# Altium schematic symbol library RF_Module.SchLib: 63 symbols
Pins are listed as number, name and electrical type; pins without a type are passive.

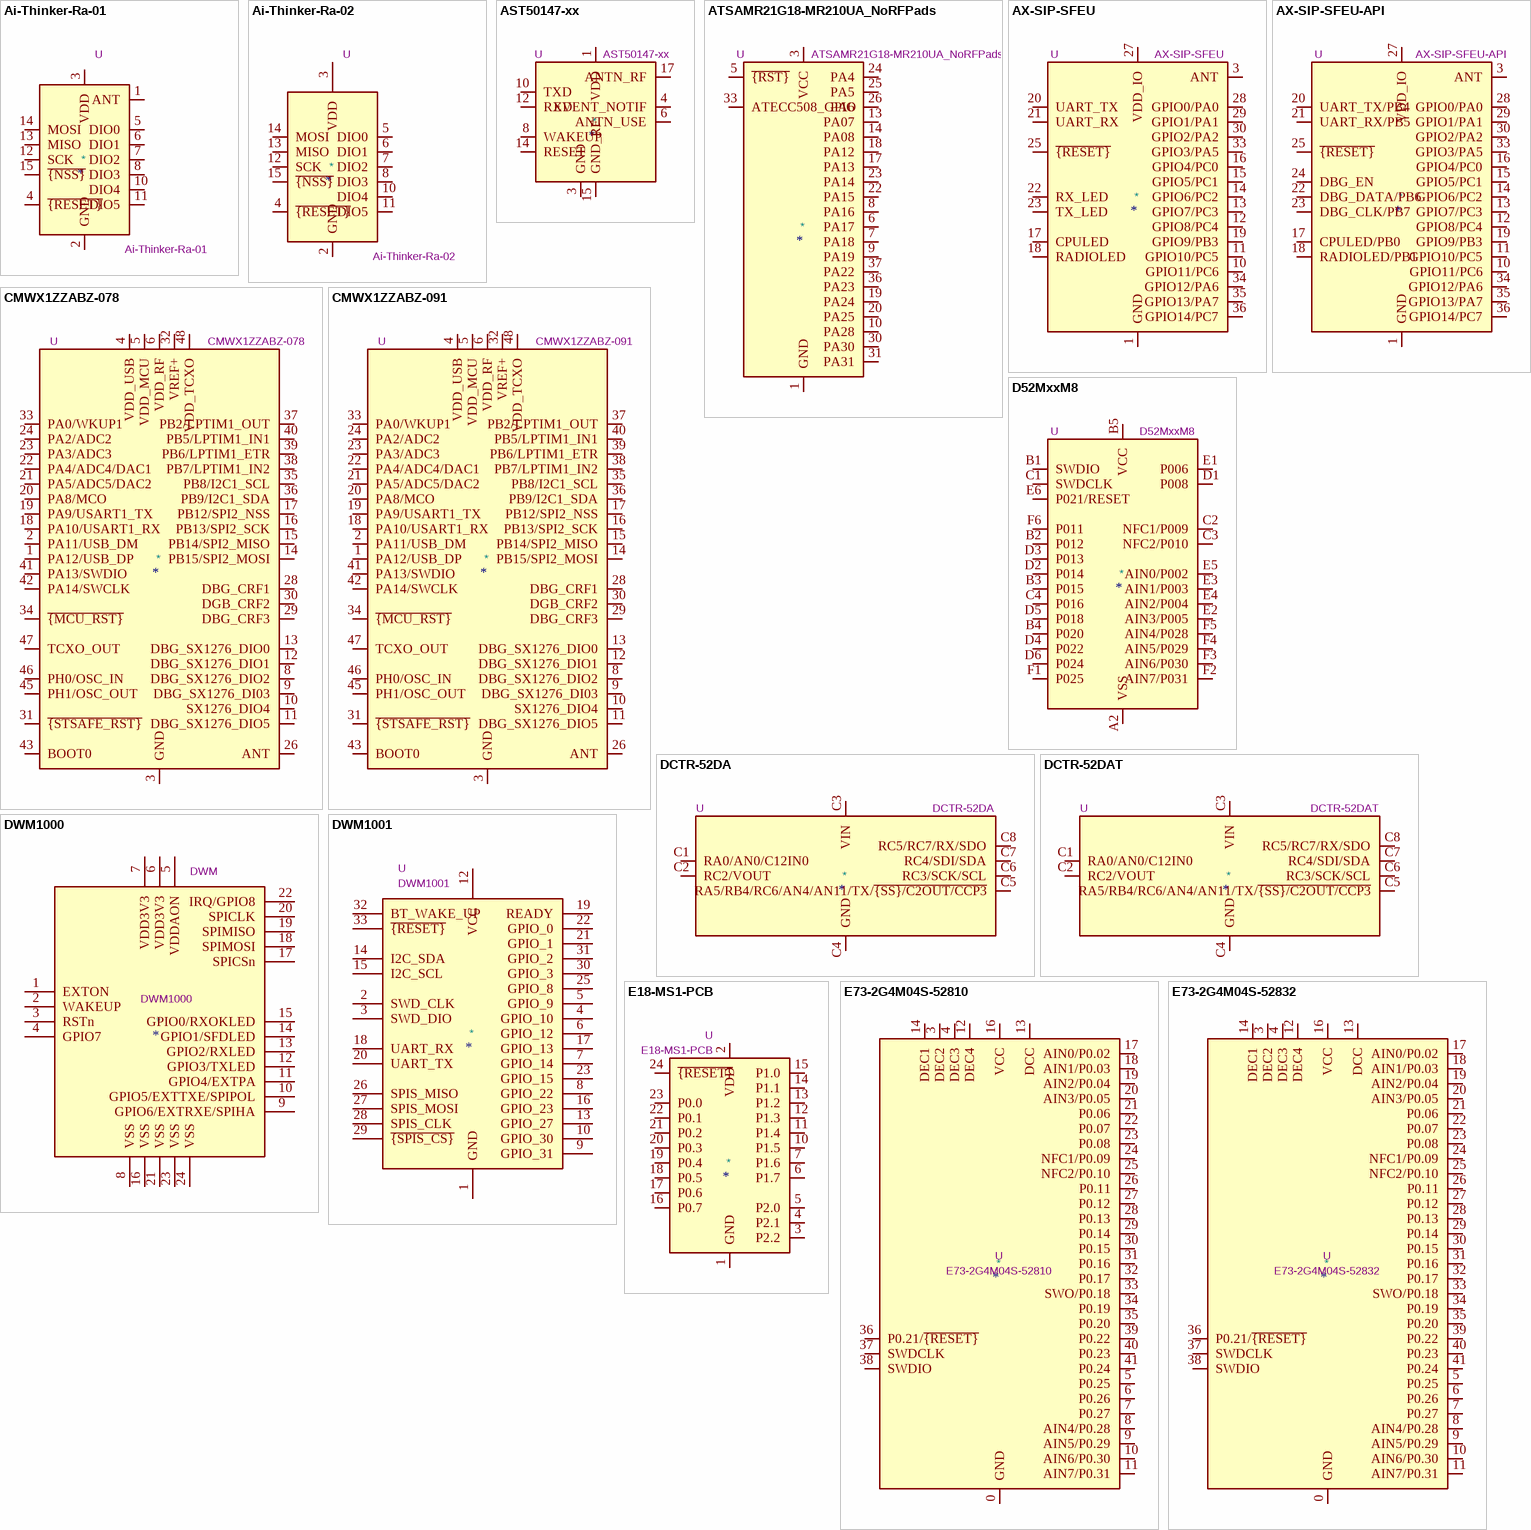
[diagram p0: symbols Ai-Thinker-Ra-01 to E73-2G4M04S-52832]

## Ai-Thinker-Ra-01
designator *  value Ai-Thinker-Ra-01  Reference: U
ki_keywords: Ra-01 LoRa; ki_description: Ai-Thinker Ra-01 410-525 MHz LoRa Module, SPI interface, external antenna; ki_fp_filters: Ai?Thinker?Ra?01*; Footprint: RF_Module:Ai-Thinker-Ra-01-LoRa; Datasheet: http://wiki.ai-thinker.com/_media/lora/docs/c047ps01a1_ra-01_product_specification_v1.1.pdf
pins: 1 ANT, 2 GND, 3 VDD, 4 ~{{RESET}}, 5 DIO0, 6 DIO1, 7 DIO2, 8 DIO3, 9 GND hidden, 10 DIO4, 11 DIO5, 12 SCK, 13 MISO, 14 MOSI, 15 ~{{NSS}}, 16 GND hidden

## Ai-Thinker-Ra-02
designator *  value Ai-Thinker-Ra-02  Reference: U
ki_keywords: Ra-02 LoRa; ki_description: Ai-Thinker Ra-02 410-525 MHz LoRa Module, SPI interface, U.FL antenna connector; ki_fp_filters: Ai?Thinker?Ra?01*; Footprint: RF_Module:Ai-Thinker-Ra-01-LoRa; Datasheet: http://wiki.ai-thinker.com/_media/lora/docs/c048ps01a1_ra-02_product_specification_v1.1.pdf
pins: 1 GND hidden, 2 GND, 3 VDD, 4 ~{{RESET}}, 5 DIO0, 6 DIO1, 7 DIO2, 8 DIO3, 9 GND hidden, 10 DIO4, 11 DIO5, 12 SCK, 13 MISO, 14 MOSI, 15 ~{{NSS}}, 16 GND hidden

## AST50147-xx
designator *  value AST50147-xx  Reference: U
ki_keywords: RF module Astrocast radio Astronode; ki_description: L-band satellite communication Astronode S module; ki_fp_filters: Astrocast*AST50147*; Footprint: RF_Module:Astrocast_AST50147-00; Datasheet: https://docs.astrocast.com/dl/0532-DOC-M2M-ASTRO-Astronode_S-Datasheet.pdf
pins: 1 VDD, 2 VDD hidden, 3 GND, 4 EVENT_NOTIF, 5 GND hidden, 6 ANTN_USE, 7 GND hidden, 8 WAKEUP, 9 GND hidden, 10 TXD, 11 GND hidden, 12 RXD, 13 GND hidden, 14 RESET, 15 GND_RF, 16 GND_RF hidden, 17 ANTN_RF, 18 GND_RF hidden, 19 GND_RF hidden, 20 RSVD hidden, 21 RSVD hidden, 22 RSVD hidden, 23 GND hidden, 24 N.C. hidden, 25 GND hidden, 26 N.C. hidden, 27 GND hidden, 28 N.C. hidden, 29 GND hidden, 30 N.C. hidden, 31 GND hidden, 32 N.C. hidden, 33 GND hidden, 34 N.C. hidden, 35 N.C. hidden, 36 GND hidden, 37 RSVD hidden, 38 RSVD hidden

## ATSAMR21G18-MR210UA_NoRFPads
designator *  value ATSAMR21G18-MR210UA_NoRFPads  Reference: U
ki_keywords: Wireless Zigbee 802.15.4 ATSAMR21G18 AT45DB041E TECC508A; ki_description: RF Module, ATSAMR21, Zigbee 802.15.4, external antenna, SMD; ki_fp_filters: Atmel*ATSAMR21G18*MR210UA*NoRFPads*; Footprint: RF_Module:Atmel_ATSAMR21G18-MR210UA_NoRFPads; Datasheet: http://ww1.microchip.com/downloads/en/devicedoc/atmel-42475-atsamr21g18-mr210ua_datasheet.pdf
pins: 1 GND, 2 GND hidden, 3 VCC, 4 VCC hidden, 5 ~{{RST}}, 6 PA17, 7 PA18, 8 PA16, 9 PA19, 10 PA28, 11 NC hidden, 12 GND hidden, 13 PA07, 14 PA08, 15 NC hidden, 16 NC hidden, 17 PA13, 18 PA12, 19 PA24, 20 PA25, 21 NC hidden, 22 PA15, 23 PA14, 24 PA4, 25 PA5, 26 PA6, 27 NC hidden, 28 NC hidden, 29 GND hidden, 30 PA30, 31 PA31, 32 NC hidden, 33 ATECC508_GPIO, 34 NC hidden, 35 NC hidden, 36 PA23, 37 PA22, 38 NC hidden, 39 NC hidden, 40 NC hidden, 41 GND hidden, 42 GND hidden

## AX-SIP-SFEU
designator *  value AX-SIP-SFEU  Reference: U
ki_keywords: Sigfox SIP 868Mhz; ki_description: Ultra low power, Sigfox or custom, system in package transceiver, 868Mhz; ki_fp_filters: OnSemi*SIP*6EP*9x7mm*P0.65mm*; Footprint: Package_DFN_QFN:OnSemi_SIP-38-6EP-9x7mm_P0.65mm_EP1.2x1.2mm; Datasheet: https://www.onsemi.com/pub/Collateral/AX-SIP-SFEU-D.PDF
pins: 1 GND, 2 GND hidden, 3 ANT, 4 GND hidden, 5 NC hidden, 6 GND hidden, 7 NC hidden, 8 NC hidden, 9 NC hidden, 10 GPIO11/PC6, 11 GPIO10/PC5, 12 GPIO8/PC4, 13 GPIO7/PC3, 14 GPIO6/PC2, 15 GPIO5/PC1, 16 GPIO4/PC0, 17 CPULED, 18 RADIOLED, 19 GPIO9/PB3, 20 UART_TX, 21 UART_RX, 22 RX_LED, 23 TX_LED, 24 NC24 hidden, 25 ~{{RESET}}, 26 GND hidden, 27 VDD_IO, 28 GPIO0/PA0, 29 GPIO1/PA1, 30 GPIO2/PA2, 31 NC hidden, 32 NC hidden, 33 GPIO3/PA5, 34 GPIO12/PA6, 35 GPIO13/PA7, 36 GPIO14/PC7, 37 NC hidden, 38 NC hidden, 39 GND hidden, 40 GND hidden, 41 GND hidden, 42 GND hidden, 43 GND hidden, 44 GND hidden

## AX-SIP-SFEU-API
designator *  value AX-SIP-SFEU-API  Reference: U
ki_keywords: Sigfox SIP 868Mhz; ki_description: Ultra low power, Sigfox or custom, programmable system in package, 868Mhz; ki_fp_filters: OnSemi*SIP*6EP*9x7mm*P0.65mm*; Footprint: Package_DFN_QFN:OnSemi_SIP-38-6EP-9x7mm_P0.65mm_EP1.2x1.2mm; Datasheet: https://www.onsemi.com/pub/Collateral/AX-SIP-SFEU-D.PDF
pins: 1 GND, 2 GND hidden, 3 ANT, 4 GND hidden, 5 NC hidden, 6 GND hidden, 7 NC hidden, 8 NC hidden, 9 NC hidden, 10 GPIO11/PC6, 11 GPIO10/PC5, 12 GPIO8/PC4, 13 GPIO7/PC3, 14 GPIO6/PC2, 15 GPIO5/PC1, 16 GPIO4/PC0, 17 CPULED/PB0, 18 RADIOLED/PB1, 19 GPIO9/PB3, 20 UART_TX/PB4, 21 UART_RX/PB5, 22 DBG_DATA/PB6, 23 DBG_CLK/PB7, 24 DBG_EN, 25 ~{{RESET}}, 26 GND hidden, 27 VDD_IO, 28 GPIO0/PA0, 29 GPIO1/PA1, 30 GPIO2/PA2, 31 NC hidden, 32 NC hidden, 33 GPIO3/PA5, 34 GPIO12/PA6, 35 GPIO13/PA7, 36 GPIO14/PC7, 37 NC hidden, 38 NC hidden, 39 GND hidden, 40 GND hidden, 41 GND hidden, 42 GND hidden, 43 GND hidden, 44 GND hidden

## CMWX1ZZABZ-078
designator *  value CMWX1ZZABZ-078  Reference: U
ki_keywords: iot lora sigfox; ki_description: LoRa/SigFox Module, STM32L082 MCU, Murata CMWX1ZZABZ; ki_fp_filters: CMWX1ZZABZ*; Footprint: RF_Module:CMWX1ZZABZ; Datasheet: https://wireless.murata.com/RFM/data/type_abz.pdf
pins: 1 PA12/USB_DP, 2 PA11/USB_DM, 3 GND, 4 VDD_USB, 5 VDD_MCU, 6 VDD_RF, 7 GND hidden, 8 DBG_SX1276_DIO2, 9 DBG_SX1276_DI03, 10 SX1276_DIO4, 11 DBG_SX1276_DIO5, 12 DBG_SX1276_DIO1, 13 DBG_SX1276_DIO0, 14 PB15/SPI2_MOSI, 15 PB14/SPI2_MISO, 16 PB13/SPI2_SCK, 17 PB12/SPI2_NSS, 18 PA10/USART1_RX, 19 PA9/USART1_TX, 20 PA8/MCO, 21 PA5/ADC5/DAC2, 22 PA4/ADC4/DAC1, 23 PA3/ADC3, 24 PA2/ADC2, 25 GND hidden, 26 ANT, 27 GND hidden, 28 DBG_CRF1, 29 DBG_CRF3, 30 DGB_CRF2, 31 ~{{STSAFE_RST}}, 32 VREF+, 33 PA0/WKUP1, 34 ~{{MCU_RST}}, 35 PB8/I2C1_SCL, 36 PB9/I2C1_SDA, 37 PB2/LPTIM1_OUT, 38 PB7/LPTIM1_IN2, 39 PB6/LPTIM1_ETR, 40 PB5/LPTIM1_IN1, 41 PA13/SWDIO, 42 PA14/SWCLK, 43 BOOT0, 44 GND hidden, 45 PH1/OSC_OUT, 46 PH0/OSC_IN, 47 TCXO_OUT, 48 VDD_TCXO, 49 GND hidden, 50 GND hidden, 51 GND hidden, 52 GND hidden, 53 GND hidden, 54 GND hidden, 55 GND hidden, 56 GND hidden, 57 GND hidden

## CMWX1ZZABZ-091
designator *  value CMWX1ZZABZ-091  Reference: U
ki_keywords: iot lora sigfox; ki_description: LoRa/SigFox Module, STM32L072 MCU, Murata CMWX1ZZABZ; ki_fp_filters: CMWX1ZZABZ*; Footprint: RF_Module:CMWX1ZZABZ; Datasheet: https://wireless.murata.com/RFM/data/type_abz.pdf
pins: 1 PA12/USB_DP, 2 PA11/USB_DM, 3 GND, 4 VDD_USB, 5 VDD_MCU, 6 VDD_RF, 7 GND hidden, 8 DBG_SX1276_DIO2, 9 DBG_SX1276_DI03, 10 SX1276_DIO4, 11 DBG_SX1276_DIO5, 12 DBG_SX1276_DIO1, 13 DBG_SX1276_DIO0, 14 PB15/SPI2_MOSI, 15 PB14/SPI2_MISO, 16 PB13/SPI2_SCK, 17 PB12/SPI2_NSS, 18 PA10/USART1_RX, 19 PA9/USART1_TX, 20 PA8/MCO, 21 PA5/ADC5/DAC2, 22 PA4/ADC4/DAC1, 23 PA3/ADC3, 24 PA2/ADC2, 25 GND hidden, 26 ANT, 27 GND hidden, 28 DBG_CRF1, 29 DBG_CRF3, 30 DGB_CRF2, 31 ~{{STSAFE_RST}}, 32 VREF+, 33 PA0/WKUP1, 34 ~{{MCU_RST}}, 35 PB8/I2C1_SCL, 36 PB9/I2C1_SDA, 37 PB2/LPTIM1_OUT, 38 PB7/LPTIM1_IN2, 39 PB6/LPTIM1_ETR, 40 PB5/LPTIM1_IN1, 41 PA13/SWDIO, 42 PA14/SWCLK, 43 BOOT0, 44 GND hidden, 45 PH1/OSC_OUT, 46 PH0/OSC_IN, 47 TCXO_OUT, 48 VDD_TCXO, 49 GND hidden, 50 GND hidden, 51 GND hidden, 52 GND hidden, 53 GND hidden, 54 GND hidden, 55 GND hidden, 56 GND hidden, 57 GND hidden

## D52MxxM8
designator *  value D52MxxM8  Reference: U
ki_keywords: RF Radio ANT Bluetooth BLE D52 nRF52 Garmin Canada Dynastream Nordic; ki_description: D52M Module, nRF52832 SoC, ARM Cortex-M4F, 64kB RAM, 512kB Flash, 1.7-3.6V, M8-35; ki_fp_filters: Garmin*M8*9.8x14.0mm*Layout6x6*P1.5mm*; Footprint: RF_Module:Garmin_M8-35_9.8x14.0mm_Layout6x6_P1.5mm; Datasheet: https://www.thisisant.com/assets/resources/D00001687_D52_Module_Datasheet.v.2.3_(Garmin).pdf
pins: A2 VSS, A3 VSS hidden, A4 VSS hidden, A5 VSS hidden, A6 VSS hidden, B1 SWDIO, B2 P012, B3 P015, B4 P020, B5 VCC, B6 VCC hidden, C1 SWDCLK, C2 NFC1/P009, C3 NFC2/P010, C4 P016, C5 VCC hidden, C6 VCC hidden, D1 P008, D2 P014, D3 P013, D4 P022, D5 P018, D6 P024, E1 P006, E2 AIN3/P005, E3 AIN1/P003, E4 AIN2/P004, E5 AIN0/P002, E6 P021/RESET, F1 P025, F2 AIN7/P031, F3 AIN6/P030, F4 AIN5/P029, F5 AIN4/P028, F6 P011

## DCTR-52DA
designator *  value DCTR-52DA  Reference: U
ki_keywords: IQRF data controlled transceiver, PCB antenna, FSK modulation; ki_description: IQRF data controlled transceiver with PCB antenna, FSK modulation; ki_fp_filters: IQRF?TRx2DA?KON?SIM?01*; Footprint: RF_Module:IQRF_TRx2DA_KON-SIM-01; Datasheet: https://iqrf.org/weben/downloads.php?id=213
pins: C1 RA0/AN0/C12IN0, C2 RC2/VOUT, C3 VIN, C4 GND, C5 RA5/RB4/RC6/AN4/AN11/TX/~{{SS}/C2OUT/CCP3}, C6 RC3/SCK/SCL, C7 RC4/SDI/SDA, C8 RC5/RC7/RX/SDO

## DCTR-52DAT
designator *  value DCTR-52DAT  Reference: U
ki_keywords: IQRF data controlled transceiver, PCB antenna, thermometer, FSK modulation; ki_description: IQRF data controlled transceiver with PCB antenna and thermometer, FSK modulation; ki_fp_filters: IQRF?TRx2DA?KON?SIM?01*; Footprint: RF_Module:IQRF_TRx2DA_KON-SIM-01; Datasheet: https://iqrf.org/weben/downloads.php?id=213
pins: C1 RA0/AN0/C12IN0, C2 RC2/VOUT, C3 VIN, C4 GND, C5 RA5/RB4/RC6/AN4/AN11/TX/~{{SS}/C2OUT/CCP3}, C6 RC3/SCK/SCL, C7 RC4/SDI/SDA, C8 RC5/RC7/RX/SDO

## DWM1000
designator *  value DWM1000  Reference: DWM
ki_keywords: DWM1000,Decawave,RF,ranging,UWB; ki_description: Ultra wide band RF module With ranging location capabilities; ki_fp_filters: *DWM1000*; Footprint: RF_Module:DWM1000; Datasheet: https://www.decawave.com/sites/default/files/resources/dwm1000-datasheet-v1.3.pdf
pins: 1 EXTON, 2 WAKEUP, 3 RSTn, 4 GPIO7, 5 VDDAON, 6 VDD3V3, 7 VDD3V3, 8 VSS, 9 GPIO6/EXTRXE/SPIHA, 10 GPIO5/EXTTXE/SPIPOL, 11 GPIO4/EXTPA, 12 GPIO3/TXLED, 13 GPIO2/RXLED, 14 GPIO1/SFDLED, 15 GPIO0/RXOKLED, 16 VSS, 17 SPICSn, 18 SPIMOSI, 19 SPIMISO, 20 SPICLK, 21 VSS, 22 IRQ/GPIO8, 23 VSS, 24 VSS

## DWM1001
designator *  value DWM1001  Reference: U
ki_keywords: DWM1000  DecaWave RF ranging UWB; ki_description: Ultra wide band RF module With ranging location capabilities, I2C, UART, SPI, +2.8V to +3.6V VCC; ki_fp_filters: *DWM1001*; Footprint: RF_Module:DecaWave_DWM1001; Datasheet: https://www.decawave.com/sites/default/files/dwm1001_datasheet.pdf
pins: 1 GND, 2 SWD_CLK, 3 SWD_DIO, 4 GPIO_10, 5 GPIO_9, 6 GPIO_12, 7 GPIO_14, 8 GPIO_22, 9 GPIO_31, 10 GPIO_30, 11 GND hidden, 12 VCC, 13 GPIO_27, 14 I2C_SDA, 15 I2C_SCL, 16 GPIO_23, 17 GPIO_13, 18 UART_RX, 19 READY, 20 UART_TX, 21 GPIO_1, 22 GPIO_0, 23 GPIO_15, 24 GND hidden, 25 GPIO_8, 26 SPIS_MISO, 27 SPIS_MOSI, 28 SPIS_CLK, 29 ~{{SPIS_CS}}, 30 GPIO_3, 31 GPIO_2, 32 BT_WAKE_UP, 33 ~{{RESET}}, 34 GND hidden

## E18-MS1-PCB
designator *  value E18-MS1-PCB  Reference: U
ki_keywords: Zigbee, RF, 802.15.4; ki_description: Zigbee RF Module; ki_fp_filters: E18-MS1-PCB*; Footprint: RF_Module:E18-MS1-PCB; Datasheet: http://www.cdebyte.com/en/downpdf.aspx?id=122
pins: 1 GND, 2 VDD, 3 P2.2, 4 P2.1, 5 P2.0, 6 P1.7, 7 P1.6, 8 NC hidden, 9 NC hidden, 10 P1.5, 11 P1.4, 12 P1.3, 13 P1.2, 14 P1.1, 15 P1.0, 16 P0.7, 17 P0.6, 18 P0.5, 19 P0.4, 20 P0.3, 21 P0.2, 22 P0.1, 23 P0.0, 24 ~{{RESET}}

## E73-2G4M04S-52810
designator *  value E73-2G4M04S-52810  Reference: U
ki_keywords: BLE5, BLE, nRF52810; ki_description: nRF52810 BLE5 Module; ki_fp_filters: E73*2G4M04S*; Footprint: RF_Module:E73-2G4M04S; Datasheet: http://www.cdebyte.com/en/downpdf.aspx?id=243
pins: 0 GND, 1 GND hidden, 2 GND hidden, 3 DEC2, 4 DEC3, 5 P0.25, 6 P0.26, 7 P0.27, 8 AIN4/P0.28, 9 AIN5/P0.29, 10 AIN6/P0.30, 11 AIN7/P0.31, 12 DEC4, 13 DCC, 14 DEC1, 15 GND hidden, 16 VCC, 17 AIN0/P0.02, 18 AIN1/P0.03, 19 AIN2/P0.04, 20 AIN3/P0.05, 21 P0.06, 22 P0.07, 23 P0.08, 24 NFC1/P0.09, 25 NFC2/P0.10, 26 P0.11, 27 P0.12, 28 P0.13, 29 P0.14, 30 P0.15, 31 P0.16, 32 P0.17, 33 SWO/P0.18, 34 P0.19, 35 P0.20, 36 P0.21/~{{RESET}}, 37 SWDCLK, 38 SWDIO, 39 P0.22, 40 P0.23, 41 P0.24, 42 GND hidden, 43 GND hidden

## E73-2G4M04S-52832
designator *  value E73-2G4M04S-52832  Reference: U
ki_keywords: BLE5, BLE, nRF52832; ki_description: nRF52832 BLE5 Module; ki_fp_filters: E73*2G4M04S*; Footprint: RF_Module:E73-2G4M04S; Datasheet: http://www.cdebyte.com/en/downpdf.aspx?id=243
pins: 0 GND, 1 GND hidden, 2 GND hidden, 3 DEC2, 4 DEC3, 5 P0.25, 6 P0.26, 7 P0.27, 8 AIN4/P0.28, 9 AIN5/P0.29, 10 AIN6/P0.30, 11 AIN7/P0.31, 12 DEC4, 13 DCC, 14 DEC1, 15 GND hidden, 16 VCC, 17 AIN0/P0.02, 18 AIN1/P0.03, 19 AIN2/P0.04, 20 AIN3/P0.05, 21 P0.06, 22 P0.07, 23 P0.08, 24 NFC1/P0.09, 25 NFC2/P0.10, 26 P0.11, 27 P0.12, 28 P0.13, 29 P0.14, 30 P0.15, 31 P0.16, 32 P0.17, 33 SWO/P0.18, 34 P0.19, 35 P0.20, 36 P0.21/~{{RESET}}, 37 SWDCLK, 38 SWDIO, 39 P0.22, 40 P0.23, 41 P0.24, 42 GND hidden, 43 GND hidden

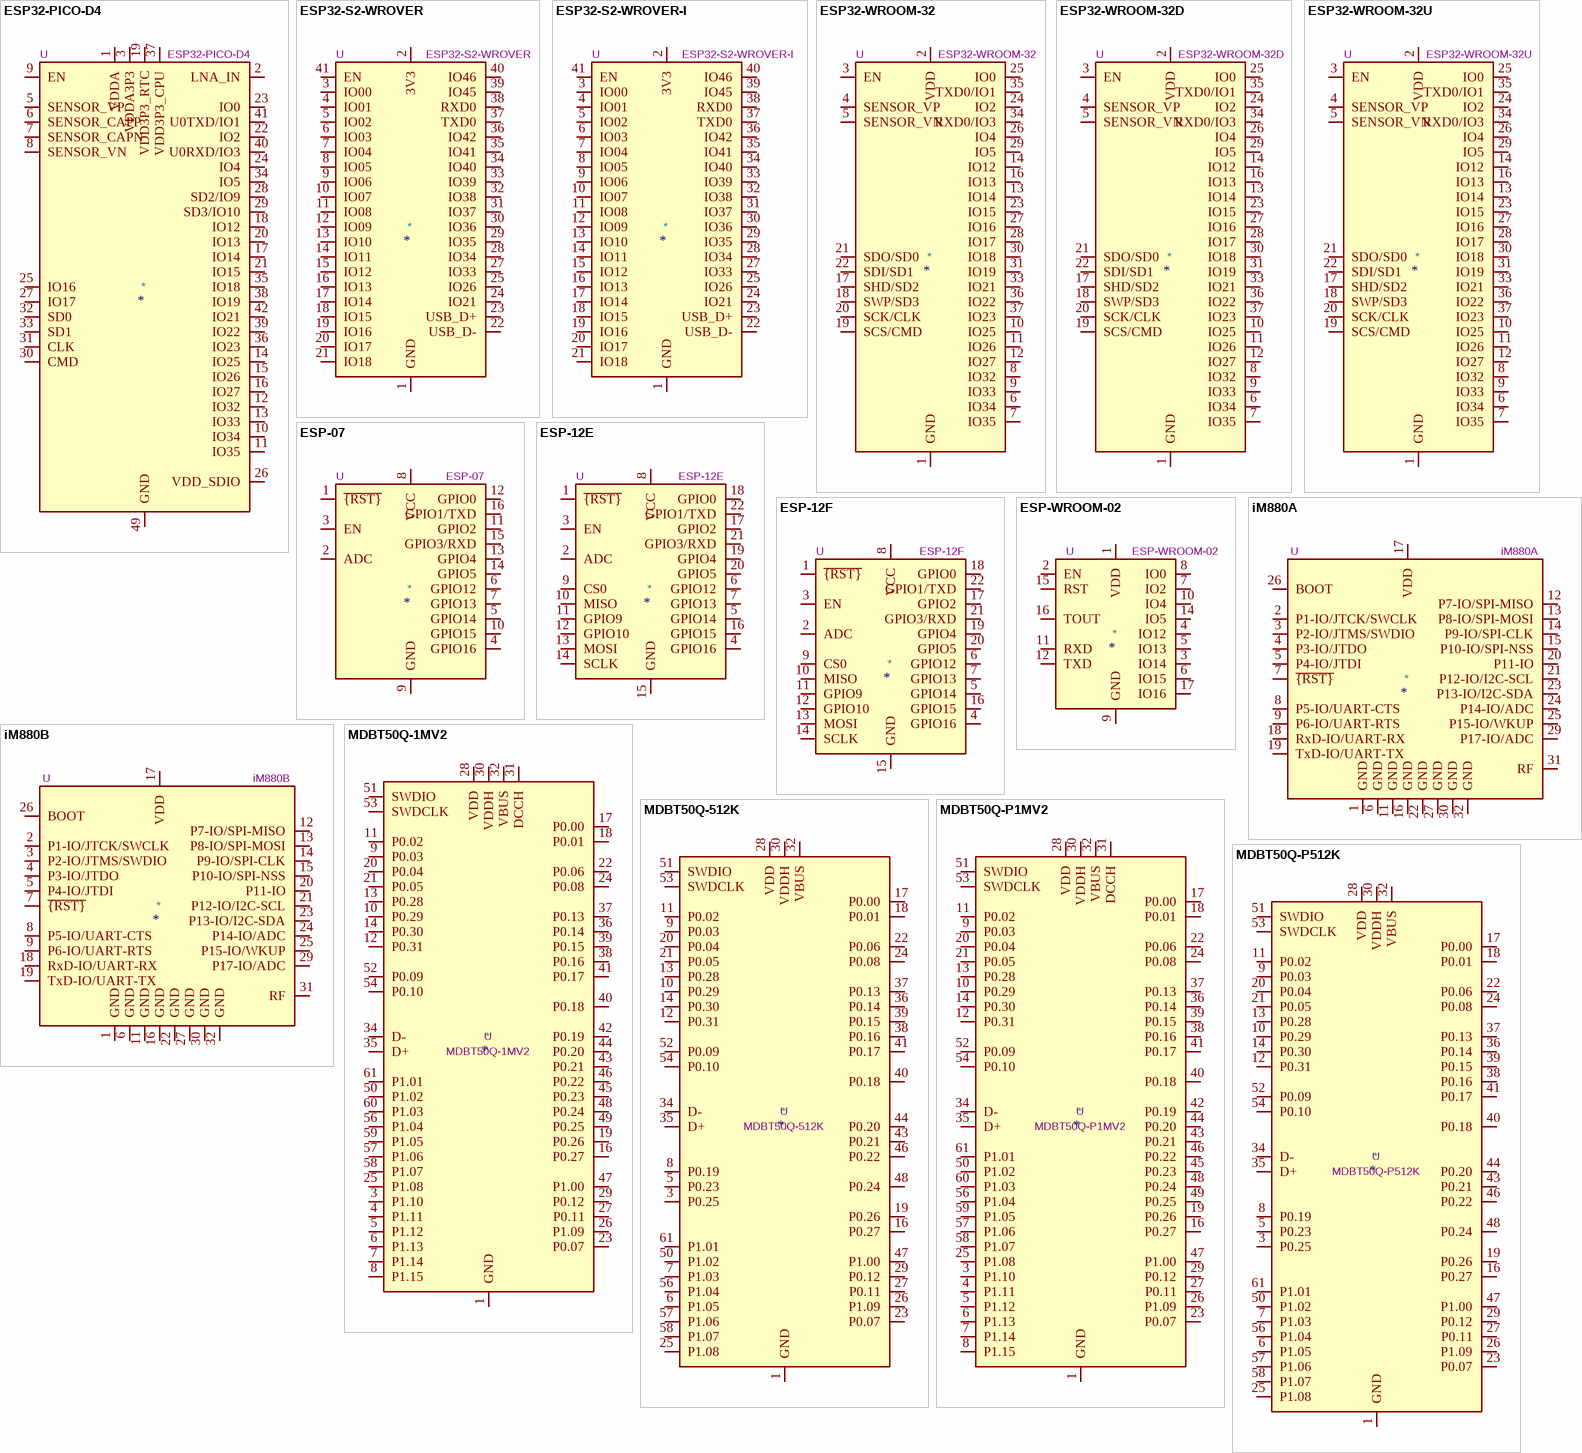
[diagram p1: symbols ESP32-PICO-D4 to MDBT50Q-P512K]

## ESP32-PICO-D4
designator *  value ESP32-PICO-D4  Reference: U
ki_keywords: RF Radio BT ESP ESP32 Espressif external antenna; ki_description: RF Module, ESP32 SoC, Wi-Fi 802.11b/g/n, Bluetooth, BLE, 32-bit, 2.7-3.6V, external antenna, QFN-48; ki_fp_filters: QFN*1EP*7x7mm*P0.5mm*; Footprint: Package_DFN_QFN:QFN-48-1EP_7x7mm_P0.5mm_EP5.3x5.3mm; Datasheet: https://www.espressif.com/sites/default/files/documentation/esp32-pico-d4_datasheet_en.pdf
pins: 1 VDDA, 2 LNA_IN, 3 VDDA3P3, 4 VDDA3P3 hidden, 5 SENSOR_VP, 6 SENSOR_CAPP, 7 SENSOR_CAPN, 8 SENSOR_VN, 9 EN, 10 IO34, 11 IO35, 12 IO32, 13 IO33, 14 IO25, 15 IO26, 16 IO27, 17 IO14, 18 IO12, 19 VDD3P3_RTC, 20 IO13, 21 IO15, 22 IO2, 23 IO0, 24 IO4, 25 IO16, 26 VDD_SDIO, 27 IO17, 28 SD2/IO9, 29 SD3/IO10, 30 CMD, 31 CLK, 32 SD0, 33 SD1, 34 IO5, 35 IO18, 36 IO23, 37 VDD3P3_CPU, 38 IO19, 39 IO22, 40 U0RXD/IO3, 41 U0TXD/IO1, 42 IO21, 43 VDDA hidden, 44 XTAL_N_NC hidden, 45 XTAL_P_NC hidden, 46 VDDA hidden, 47 CAP2_NC hidden, 48 CAP1_NC hidden, 49 GND

## ESP32-S2-WROVER
designator *  value ESP32-S2-WROVER  Reference: U
ki_keywords: RF Radio ESP ESP32 Espressif onboard PCB antenna; ki_description: RF Module, ESP32-D0WDQ6 SoC, Wi-Fi 802.11b/g/n, 32-bit, 2.7-3.6V, onboard antenna, SMD; ki_fp_filters: ESP32?S2?WROVER*; Footprint: RF_Module:ESP32-S2-WROVER; Datasheet: https://www.espressif.com/sites/default/files/documentation/esp32-s2-wroom_esp32-s2-wroom-i_datasheet_en.pdf
pins: 1 GND, 2 3V3, 3 IO00, 4 IO01, 5 IO02, 6 IO03, 7 IO04, 8 IO05, 9 IO06, 10 IO07, 11 IO08, 12 IO09, 13 IO10, 14 IO11, 15 IO12, 16 IO13, 17 IO14, 18 IO15, 19 IO16, 20 IO17, 21 IO18, 22 USB_D-, 23 USB_D+, 24 IO21, 25 IO26, 26 GND hidden, 27 IO33, 28 IO34, 29 IO35, 30 IO36, 31 IO37, 32 IO38, 33 IO39, 34 IO40, 35 IO41, 36 IO42, 37 TXD0, 38 RXD0, 39 IO45, 40 IO46, 41 EN, 42 GND hidden, 43 GND hidden

## ESP32-S2-WROVER-I
designator *  value ESP32-S2-WROVER-I  Reference: U
ki_keywords: RF Radio ESP ESP32 Espressif onboard PCB antenna; ki_description: RF Module, ESP32-D0WDQ6 SoC, Wi-Fi 802.11b/g/n, 32-bit, 2.7-3.6V, onboard antenna, SMD; ki_fp_filters: ESP32?S2?WROVER*; Footprint: RF_Module:ESP32-S2-WROVER; Datasheet: https://www.espressif.com/sites/default/files/documentation/esp32-s2-wroom_esp32-s2-wroom-i_datasheet_en.pdf
pins: 1 GND, 2 3V3, 3 IO00, 4 IO01, 5 IO02, 6 IO03, 7 IO04, 8 IO05, 9 IO06, 10 IO07, 11 IO08, 12 IO09, 13 IO10, 14 IO11, 15 IO12, 16 IO13, 17 IO14, 18 IO15, 19 IO16, 20 IO17, 21 IO18, 22 USB_D-, 23 USB_D+, 24 IO21, 25 IO26, 26 GND hidden, 27 IO33, 28 IO34, 29 IO35, 30 IO36, 31 IO37, 32 IO38, 33 IO39, 34 IO40, 35 IO41, 36 IO42, 37 TXD0, 38 RXD0, 39 IO45, 40 IO46, 41 EN, 42 GND hidden, 43 GND hidden

## ESP32-WROOM-32
designator *  value ESP32-WROOM-32  Reference: U
ki_keywords: RF Radio BT ESP ESP32 Espressif onboard PCB antenna; ki_description: RF Module, ESP32-D0WDQ6 SoC, Wi-Fi 802.11b/g/n, Bluetooth, BLE, 32-bit, 2.7-3.6V, onboard antenna, SMD; ki_fp_filters: ESP32?WROOM?32*; Footprint: RF_Module:ESP32-WROOM-32; Datasheet: https://www.espressif.com/sites/default/files/documentation/esp32-wroom-32_datasheet_en.pdf
pins: 1 GND, 2 VDD, 3 EN, 4 SENSOR_VP, 5 SENSOR_VN, 6 IO34, 7 IO35, 8 IO32, 9 IO33, 10 IO25, 11 IO26, 12 IO27, 13 IO14, 14 IO12, 15 GND hidden, 16 IO13, 17 SHD/SD2, 18 SWP/SD3, 19 SCS/CMD, 20 SCK/CLK, 21 SDO/SD0, 22 SDI/SD1, 23 IO15, 24 IO2, 25 IO0, 26 IO4, 27 IO16, 28 IO17, 29 IO5, 30 IO18, 31 IO19, 32 NC hidden, 33 IO21, 34 RXD0/IO3, 35 TXD0/IO1, 36 IO22, 37 IO23, 38 GND hidden, 39 GND hidden

## ESP32-WROOM-32D
designator *  value ESP32-WROOM-32D  Reference: U
ki_keywords: RF Radio BT ESP ESP32 Espressif onboard PCB antenna; ki_description: RF Module, ESP32-D0WD SoC, Wi-Fi 802.11b/g/n, Bluetooth, BLE, 32-bit, 2.7-3.6V, onboard antenna, SMD; ki_fp_filters: ESP32?WROOM?32D*; Footprint: RF_Module:ESP32-WROOM-32D; Datasheet: https://www.espressif.com/sites/default/files/documentation/esp32-wroom-32d_esp32-wroom-32u_datasheet_en.pdf
pins: 1 GND, 2 VDD, 3 EN, 4 SENSOR_VP, 5 SENSOR_VN, 6 IO34, 7 IO35, 8 IO32, 9 IO33, 10 IO25, 11 IO26, 12 IO27, 13 IO14, 14 IO12, 15 GND hidden, 16 IO13, 17 SHD/SD2, 18 SWP/SD3, 19 SCS/CMD, 20 SCK/CLK, 21 SDO/SD0, 22 SDI/SD1, 23 IO15, 24 IO2, 25 IO0, 26 IO4, 27 IO16, 28 IO17, 29 IO5, 30 IO18, 31 IO19, 32 NC hidden, 33 IO21, 34 RXD0/IO3, 35 TXD0/IO1, 36 IO22, 37 IO23, 38 GND hidden, 39 GND hidden

## ESP32-WROOM-32U
designator *  value ESP32-WROOM-32U  Reference: U
ki_keywords: RF Radio BT ESP ESP32 Espressif external U.FL antenna; ki_description: RF Module, ESP32-D0WD SoC, Wi-Fi 802.11b/g/n, Bluetooth, BLE, 32-bit, 2.7-3.6V, external antenna, SMD; ki_fp_filters: ESP32?WROOM?32U*; Footprint: RF_Module:ESP32-WROOM-32U; Datasheet: https://www.espressif.com/sites/default/files/documentation/esp32-wroom-32d_esp32-wroom-32u_datasheet_en.pdf
pins: 1 GND, 2 VDD, 3 EN, 4 SENSOR_VP, 5 SENSOR_VN, 6 IO34, 7 IO35, 8 IO32, 9 IO33, 10 IO25, 11 IO26, 12 IO27, 13 IO14, 14 IO12, 15 GND hidden, 16 IO13, 17 SHD/SD2, 18 SWP/SD3, 19 SCS/CMD, 20 SCK/CLK, 21 SDO/SD0, 22 SDI/SD1, 23 IO15, 24 IO2, 25 IO0, 26 IO4, 27 IO16, 28 IO17, 29 IO5, 30 IO18, 31 IO19, 32 NC hidden, 33 IO21, 34 RXD0/IO3, 35 TXD0/IO1, 36 IO22, 37 IO23, 38 GND hidden, 39 GND hidden

## ESP-07
designator *  value ESP-07  Reference: U
ki_keywords: 802.11 Wi-Fi; ki_description: 802.11 b/g/n Wi-Fi Module; ki_fp_filters: ESP?07*; Footprint: RF_Module:ESP-07; Datasheet: http://wiki.ai-thinker.com/_media/esp8266/esp8266_series_modules_user_manual_v1.1.pdf
pins: 1 ~{{RST}}, 2 ADC, 3 EN, 4 GPIO16, 5 GPIO14, 6 GPIO12, 7 GPIO13, 8 VCC, 9 GND, 10 GPIO15, 11 GPIO2, 12 GPIO0, 13 GPIO4, 14 GPIO5, 15 GPIO3/RXD, 16 GPIO1/TXD

## ESP-12E
designator *  value ESP-12E  Reference: U
ki_keywords: 802.11 Wi-Fi; ki_description: 802.11 b/g/n Wi-Fi Module; ki_fp_filters: ESP?12*; Footprint: RF_Module:ESP-12E; Datasheet: http://wiki.ai-thinker.com/_media/esp8266/esp8266_series_modules_user_manual_v1.1.pdf
pins: 1 ~{{RST}}, 2 ADC, 3 EN, 4 GPIO16, 5 GPIO14, 6 GPIO12, 7 GPIO13, 8 VCC, 9 CS0, 10 MISO, 11 GPIO9, 12 GPIO10, 13 MOSI, 14 SCLK, 15 GND, 16 GPIO15, 17 GPIO2, 18 GPIO0, 19 GPIO4, 20 GPIO5, 21 GPIO3/RXD, 22 GPIO1/TXD

## ESP-12F
designator *  value ESP-12F  Reference: U
ki_keywords: 802.11 Wi-Fi; ki_description: 802.11 b/g/n Wi-Fi Module; ki_fp_filters: ESP?12*; Footprint: RF_Module:ESP-12E; Datasheet: http://wiki.ai-thinker.com/_media/esp8266/esp8266_series_modules_user_manual_v1.1.pdf
pins: 1 ~{{RST}}, 2 ADC, 3 EN, 4 GPIO16, 5 GPIO14, 6 GPIO12, 7 GPIO13, 8 VCC, 9 CS0, 10 MISO, 11 GPIO9, 12 GPIO10, 13 MOSI, 14 SCLK, 15 GND, 16 GPIO15, 17 GPIO2, 18 GPIO0, 19 GPIO4, 20 GPIO5, 21 GPIO3/RXD, 22 GPIO1/TXD

## ESP-WROOM-02
designator *  value ESP-WROOM-02  Reference: U
ki_keywords: RF Radio ESP Espressif; ki_description: Wi-Fi Module, ESP8266EX SoC, 32-bit, 802.11b/g/n, WPA/WPA2, 2.7-3.6V, SMD; ki_fp_filters: ESP?WROOM?02*; Footprint: RF_Module:ESP-WROOM-02; Datasheet: https://www.espressif.com/sites/default/files/documentation/0c-esp-wroom-02_datasheet_en.pdf
pins: 1 VDD, 2 EN, 3 IO14, 4 IO12, 5 IO13, 6 IO15, 7 IO2, 8 IO0, 9 GND, 10 IO4, 11 RXD, 12 TXD, 13 GND hidden, 14 IO5, 15 RST, 16 TOUT, 17 IO16, 18 GND hidden, 19 GND hidden

## iM880A
designator *  value iM880A  Reference: U
ki_keywords: IOT LoRa; ki_description: IMST Long Range Radio Module; Datasheet: http://www.wireless-solutions.de/images/stories/downloads/Radio%20Modules/iM880A/General_Information/iM880A_Datasheet_V1_1.pdf
pins: 1 GND, 2 P1-IO/JTCK/SWCLK, 3 P2-IO/JTMS/SWDIO, 4 P3-IO/JTDO, 5 P4-IO/JTDI, 6 GND, 7 ~{{RST}}, 8 P5-IO/UART-CTS, 9 P6-IO/UART-RTS, 10 NC hidden, 11 GND, 12 P7-IO/SPI-MISO, 13 P8-IO/SPI-MOSI, 14 P9-IO/SPI-CLK, 15 P10-IO/SPI-NSS, 16 GND, 17 VDD, 18 RxD-IO/UART-RX, 19 TxD-IO/UART-TX, 20 P11-IO, 21 P12-IO/I2C-SCL, 22 GND, 23 P13-IO/I2C-SDA, 24 P14-IO/ADC, 25 P15-IO/WKUP, 26 BOOT, 27 GND, 28 NC hidden, 29 P17-IO/ADC, 30 GND, 31 RF, 32 GND

## iM880B
designator *  value iM880B  Reference: U
ki_keywords: IOT LoRa; ki_description: IMST Long Range Radio Module - LoRa Alliance Certified; Datasheet: http://www.wireless-solutions.de/images/stories/downloads/Radio%20Modules/iM880B/General_Information/iM880B_Datasheet_V1_0.pdf
pins: 1 GND, 2 P1-IO/JTCK/SWCLK, 3 P2-IO/JTMS/SWDIO, 4 P3-IO/JTDO, 5 P4-IO/JTDI, 6 GND, 7 ~{{RST}}, 8 P5-IO/UART-CTS, 9 P6-IO/UART-RTS, 10 NC hidden, 11 GND, 12 P7-IO/SPI-MISO, 13 P8-IO/SPI-MOSI, 14 P9-IO/SPI-CLK, 15 P10-IO/SPI-NSS, 16 GND, 17 VDD, 18 RxD-IO/UART-RX, 19 TxD-IO/UART-TX, 20 P11-IO, 21 P12-IO/I2C-SCL, 22 GND, 23 P13-IO/I2C-SDA, 24 P14-IO/ADC, 25 P15-IO/WKUP, 26 BOOT, 27 GND, 28 NC hidden, 29 P17-IO/ADC, 30 GND, 31 RF, 32 GND

## MDBT50Q-1MV2
designator *  value MDBT50Q-1MV2  Reference: U
ki_keywords: BLE ANT ZigBee Thread 802.15.4 nRF52840 nordic MDBT50Q; ki_description: Multiprotocol BLE/ANT/2.4 GHz/802.15.4 Cortex-M4F SoC, nRF52840 module; ki_fp_filters: Raytac?MDBT50Q*; Footprint: RF_Module:Raytac_MDBT50Q; Datasheet: https://www.raytac.com/download/index.php?index_id=43
pins: 1 GND, 2 GND hidden, 3 P1.10, 4 P1.11, 5 P1.12, 6 P1.13, 7 P1.14, 8 P1.15, 9 P0.03, 10 P0.29, 11 P0.02, 12 P0.31, 13 P0.28, 14 P0.30, 15 GND hidden, 16 P0.27, 17 P0.00, 18 P0.01, 19 P0.26, 20 P0.04, 21 P0.05, 22 P0.06, 23 P0.07, 24 P0.08, 25 P1.08, 26 P1.09, 27 P0.11, 28 VDD, 29 P0.12, 30 VDDH, 31 DCCH, 32 VBUS, 33 GND hidden, 34 D-, 35 D+, 36 P0.14, 37 P0.13, 38 P0.16, 39 P0.15, 40 P0.18, 41 P0.17, 42 P0.19, 43 P0.21, 44 P0.20, 45 P0.23, 46 P0.22, 47 P1.00, 48 P0.24, 49 P0.25, 50 P1.02, 51 SWDIO, 52 P0.09, 53 SWDCLK, 54 P0.10, 55 GND hidden, 56 P1.04, 57 P1.06, 58 P1.07, 59 P1.05, 60 P1.03, 61 P1.01

## MDBT50Q-512K
designator *  value MDBT50Q-512K  Reference: U
ki_keywords: MCU, ARM, BLE, ANT, 2.4GHz, 802.15.4 MDBT50Q; ki_description: Multiprotocol BLE/ANT/2.4 GHz/802.15.4 Cortex-M4F SoC, nRF52833 module; ki_fp_filters: Raytac?MDBT50Q*; Footprint: RF_Module:Raytac_MDBT50Q; Datasheet: https://www.raytac.com/download/index.php?index_id=46
pins: 1 GND, 2 GND hidden, 3 P0.25, 4 NC hidden, 5 P0.23, 6 P1.05, 7 P1.03, 8 P0.19, 9 P0.03, 10 P0.29, 11 P0.02, 12 P0.31, 13 P0.28, 14 P0.30, 15 GND hidden, 16 P0.27, 17 P0.00, 18 P0.01, 19 P0.26, 20 P0.04, 21 P0.05, 22 P0.06, 23 P0.07, 24 P0.08, 25 P1.08, 26 P1.09, 27 P0.11, 28 VDD, 29 P0.12, 30 VDDH, 31 NC hidden, 32 VBUS, 33 GND hidden, 34 D-, 35 D+, 36 P0.14, 37 P0.13, 38 P0.16, 39 P0.15, 40 P0.18, 41 P0.17, 42 P0.19 hidden, 43 P0.21, 44 P0.20, 45 NC hidden, 46 P0.22, 47 P1.00, 48 P0.24, 49 NC hidden, 50 P1.02, 51 SWDIO, 52 P0.09, 53 SWDCLK, 54 P0.10, 55 GND hidden, 56 P1.04, 57 P1.06, 58 P1.07, 59 NC hidden, 60 NC hidden, 61 P1.01

## MDBT50Q-P1MV2
designator *  value MDBT50Q-P1MV2  Reference: U
ki_keywords: BLE ANT ZigBee Thread 802.15.4 nRF52840 nordic MDBT50Q; ki_description: Multiprotocol BLE/ANT/2.4 GHz/802.15.4 Cortex-M4F SoC, nRF52840 module; ki_fp_filters: Raytac?MDBT50Q*; Footprint: RF_Module:Raytac_MDBT50Q; Datasheet: https://www.raytac.com/download/index.php?index_id=43
pins: 1 GND, 2 GND hidden, 3 P1.10, 4 P1.11, 5 P1.12, 6 P1.13, 7 P1.14, 8 P1.15, 9 P0.03, 10 P0.29, 11 P0.02, 12 P0.31, 13 P0.28, 14 P0.30, 15 GND hidden, 16 P0.27, 17 P0.00, 18 P0.01, 19 P0.26, 20 P0.04, 21 P0.05, 22 P0.06, 23 P0.07, 24 P0.08, 25 P1.08, 26 P1.09, 27 P0.11, 28 VDD, 29 P0.12, 30 VDDH, 31 DCCH, 32 VBUS, 33 GND hidden, 34 D-, 35 D+, 36 P0.14, 37 P0.13, 38 P0.16, 39 P0.15, 40 P0.18, 41 P0.17, 42 P0.19, 43 P0.21, 44 P0.20, 45 P0.23, 46 P0.22, 47 P1.00, 48 P0.24, 49 P0.25, 50 P1.02, 51 SWDIO, 52 P0.09, 53 SWDCLK, 54 P0.10, 55 GND hidden, 56 P1.04, 57 P1.06, 58 P1.07, 59 P1.05, 60 P1.03, 61 P1.01

## MDBT50Q-P512K
designator *  value MDBT50Q-P512K  Reference: U
ki_keywords: MCU, ARM, BLE, ANT, 2.4GHz, 802.15.4 MDBT50Q; ki_description: Multiprotocol BLE/ANT/2.4 GHz/802.15.4 Cortex-M4F SoC, nRF52833 module; ki_fp_filters: Raytac?MDBT50Q*; Footprint: RF_Module:Raytac_MDBT50Q; Datasheet: https://www.raytac.com/download/index.php?index_id=46
pins: 1 GND, 2 GND hidden, 3 P0.25, 4 NC hidden, 5 P0.23, 6 P1.05, 7 P1.03, 8 P0.19, 9 P0.03, 10 P0.29, 11 P0.02, 12 P0.31, 13 P0.28, 14 P0.30, 15 GND hidden, 16 P0.27, 17 P0.00, 18 P0.01, 19 P0.26, 20 P0.04, 21 P0.05, 22 P0.06, 23 P0.07, 24 P0.08, 25 P1.08, 26 P1.09, 27 P0.11, 28 VDD, 29 P0.12, 30 VDDH, 31 NC hidden, 32 VBUS, 33 GND hidden, 34 D-, 35 D+, 36 P0.14, 37 P0.13, 38 P0.16, 39 P0.15, 40 P0.18, 41 P0.17, 42 P0.19 hidden, 43 P0.21, 44 P0.20, 45 NC hidden, 46 P0.22, 47 P1.00, 48 P0.24, 49 NC hidden, 50 P1.02, 51 SWDIO, 52 P0.09, 53 SWDCLK, 54 P0.10, 55 GND hidden, 56 P1.04, 57 P1.06, 58 P1.07, 59 NC hidden, 60 NC hidden, 61 P1.01

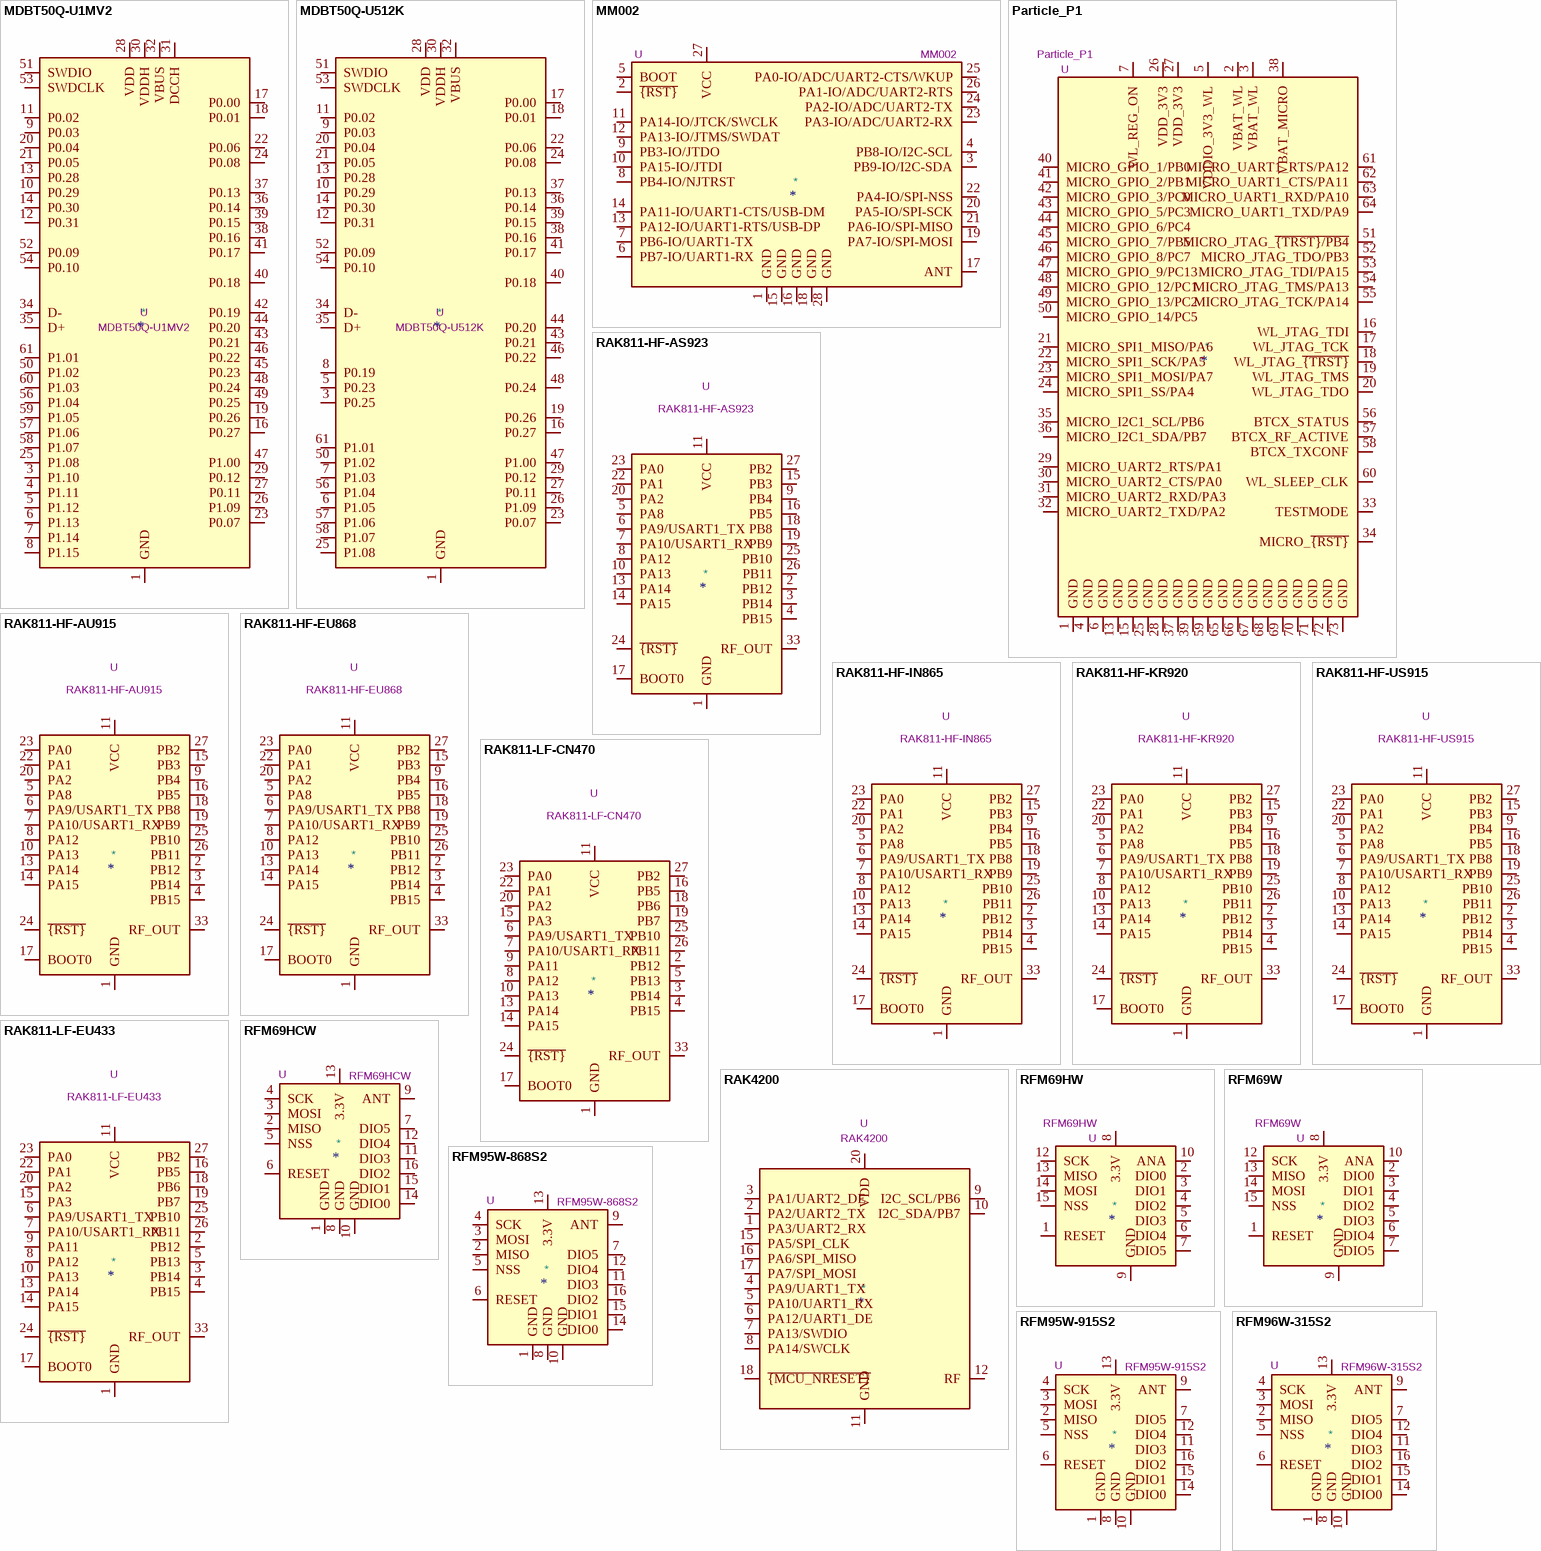
[diagram p2: symbols MDBT50Q-U1MV2 to RFM96W-315S2]

## MDBT50Q-U1MV2
designator *  value MDBT50Q-U1MV2  Reference: U
ki_keywords: BLE ANT ZigBee Thread 802.15.4 nRF52840 nordic MDBT50Q; ki_description: Multiprotocol BLE/ANT/2.4 GHz/802.15.4 Cortex-M4F SoC, nRF52840 module; ki_fp_filters: Raytac?MDBT50Q*; Footprint: RF_Module:Raytac_MDBT50Q; Datasheet: https://www.raytac.com/download/index.php?index_id=43
pins: 1 GND, 2 GND hidden, 3 P1.10, 4 P1.11, 5 P1.12, 6 P1.13, 7 P1.14, 8 P1.15, 9 P0.03, 10 P0.29, 11 P0.02, 12 P0.31, 13 P0.28, 14 P0.30, 15 GND hidden, 16 P0.27, 17 P0.00, 18 P0.01, 19 P0.26, 20 P0.04, 21 P0.05, 22 P0.06, 23 P0.07, 24 P0.08, 25 P1.08, 26 P1.09, 27 P0.11, 28 VDD, 29 P0.12, 30 VDDH, 31 DCCH, 32 VBUS, 33 GND hidden, 34 D-, 35 D+, 36 P0.14, 37 P0.13, 38 P0.16, 39 P0.15, 40 P0.18, 41 P0.17, 42 P0.19, 43 P0.21, 44 P0.20, 45 P0.23, 46 P0.22, 47 P1.00, 48 P0.24, 49 P0.25, 50 P1.02, 51 SWDIO, 52 P0.09, 53 SWDCLK, 54 P0.10, 55 GND hidden, 56 P1.04, 57 P1.06, 58 P1.07, 59 P1.05, 60 P1.03, 61 P1.01

## MDBT50Q-U512K
designator *  value MDBT50Q-U512K  Reference: U
ki_keywords: MCU, ARM, BLE, ANT, 2.4GHz, 802.15.4 MDBT50Q; ki_description: Multiprotocol BLE/ANT/2.4 GHz/802.15.4 Cortex-M4F SoC, nRF52833 module; ki_fp_filters: Raytac?MDBT50Q*; Footprint: RF_Module:Raytac_MDBT50Q; Datasheet: https://www.raytac.com/download/index.php?index_id=46
pins: 1 GND, 2 GND hidden, 3 P0.25, 4 NC hidden, 5 P0.23, 6 P1.05, 7 P1.03, 8 P0.19, 9 P0.03, 10 P0.29, 11 P0.02, 12 P0.31, 13 P0.28, 14 P0.30, 15 GND hidden, 16 P0.27, 17 P0.00, 18 P0.01, 19 P0.26, 20 P0.04, 21 P0.05, 22 P0.06, 23 P0.07, 24 P0.08, 25 P1.08, 26 P1.09, 27 P0.11, 28 VDD, 29 P0.12, 30 VDDH, 31 NC hidden, 32 VBUS, 33 GND hidden, 34 D-, 35 D+, 36 P0.14, 37 P0.13, 38 P0.16, 39 P0.15, 40 P0.18, 41 P0.17, 42 P0.19 hidden, 43 P0.21, 44 P0.20, 45 NC hidden, 46 P0.22, 47 P1.00, 48 P0.24, 49 NC hidden, 50 P1.02, 51 SWDIO, 52 P0.09, 53 SWDCLK, 54 P0.10, 55 GND hidden, 56 P1.04, 57 P1.06, 58 P1.07, 59 NC hidden, 60 NC hidden, 61 P1.01

## MM002
designator *  value MM002  Reference: U
ki_keywords: IOT LoRa SIGFOX; ki_description: NEMEUS Modem dual-mode LoRa/SIGFOX; Datasheet: http://www.nemeus.fr/resources/uploads/2015/04/MM002-xx-EU_datasheet_v0.11.pdf
pins: 1 GND, 2 ~{{RST}}, 3 PB9-IO/I2C-SDA, 4 PB8-IO/I2C-SCL, 5 BOOT, 6 PB7-IO/UART1-RX, 7 PB6-IO/UART1-TX, 8 PB4-IO/NJTRST, 9 PB3-IO/JTDO, 10 PA15-IO/JTDI, 11 PA14-IO/JTCK/SWCLK, 12 PA13-IO/JTMS/SWDAT, 13 PA12-IO/UART1-RTS/USB-DP, 14 PA11-IO/UART1-CTS/USB-DM, 15 GND, 16 GND, 17 ANT, 18 GND, 19 PA7-IO/SPI-MOSI, 20 PA5-IO/SPI-SCK, 21 PA6-IO/SPI-MISO, 22 PA4-IO/SPI-NSS, 23 PA3-IO/ADC/UART2-RX, 24 PA2-IO/ADC/UART2-TX, 25 PA0-IO/ADC/UART2-CTS/WKUP, 26 PA1-IO/ADC/UART2-RTS, 27 VCC, 28 GND

## Particle_P1
designator *  value Particle_P1  Reference: U
ki_keywords: Wi-Fi module; ki_description: Wi-Fi module, 1MB flash, 128KB RAM; ki_fp_filters: Particle*P1*; Footprint: RF_Module:Particle_P1; Datasheet: https://docs.particle.io/datasheets/p1-datasheet/
pins: 1 GND, 2 VBAT_WL, 3 VBAT_WL, 4 GND, 5 VDDIO_3V3_WL, 6 GND, 7 WL_REG_ON, 8 NC hidden, 9 NC hidden, 10 NC hidden, 11 NC hidden, 12 NC hidden, 13 GND, 14 NC hidden, 15 GND, 16 WL_JTAG_TDI, 17 WL_JTAG_TCK, 18 WL_JTAG_~{{TRST}}, 19 WL_JTAG_TMS, 20 WL_JTAG_TDO, 21 MICRO_SPI1_MISO/PA6, 22 MICRO_SPI1_SCK/PA5, 23 MICRO_SPI1_MOSI/PA7, 24 MICRO_SPI1_SS/PA4, 25 GND, 26 VDD_3V3, 27 VDD_3V3, 28 GND, 29 MICRO_UART2_RTS/PA1, 30 MICRO_UART2_CTS/PA0, 31 MICRO_UART2_RXD/PA3, 32 MICRO_UART2_TXD/PA2, 33 TESTMODE, 34 MICRO_~{{RST}}, 35 MICRO_I2C1_SCL/PB6, 36 MICRO_I2C1_SDA/PB7, 37 GND, 38 VBAT_MICRO, 39 GND, 40 MICRO_GPIO_1/PB0, 41 MICRO_GPIO_2/PB1, 42 MICRO_GPIO_3/PC0, 43 MICRO_GPIO_5/PC3, 44 MICRO_GPIO_6/PC4, 45 MICRO_GPIO_7/PB5, 46 MICRO_GPIO_8/PC7, 47 MICRO_GPIO_9/PC13, 48 MICRO_GPIO_12/PC1, 49 MICRO_GPIO_13/PC2, 50 MICRO_GPIO_14/PC5, 51 MICRO_JTAG_~{{TRST}/PB4}, 52 MICRO_JTAG_TDO/PB3, 53 MICRO_JTAG_TDI/PA15, 54 MICRO_JTAG_TMS/PA13, 55 MICRO_JTAG_TCK/PA14, 56 BTCX_STATUS, 57 BTCX_RF_ACTIVE, 58 BTCX_TXCONF, 59 GND, 60 WL_SLEEP_CLK, 61 MICRO_UART1_RTS/PA12, 62 MICRO_UART1_CTS/PA11, 63 MICRO_UART1_RXD/PA10, 64 MICRO_UART1_TXD/PA9, 65 GND, 66 GND, 67 GND, 68 GND, 69 GND, 70 GND, 71 GND, 72 GND, 73 GND, 74 PAD1 hidden, 75 PAD2 hidden

## RAK811-HF-AS923
designator *  value RAK811-HF-AS923  Reference: U
ki_keywords: IoT LoRa LoRaWAN RF; ki_description: LoRa Module, STM32L151, AS923, RAKwireless; ki_fp_filters: RAK811*; Footprint: RF_Module:RAK811; Datasheet: https://downloads.rakwireless.com/LoRa/RAK811/Hardware_Specification/RAK811_LoRa_Module_Datasheet_V1.4.pdf
pins: 1 GND, 2 PB12, 3 PB14, 4 PB15, 5 PA8, 6 PA9/USART1_TX, 7 PA10/USART1_RX, 8 PA12, 9 PB4, 10 PA13, 11 VCC, 12 GND hidden, 13 PA14, 14 PA15, 15 PB3, 16 PB5, 17 BOOT0, 18 PB8, 19 PB9, 20 PA2, 21 GND hidden, 22 PA1, 23 PA0, 24 ~{{RST}}, 25 PB10, 26 PB11, 27 PB2, 28 GND hidden, 29 GND hidden, 30 GND hidden, 31 GND hidden, 32 GND hidden, 33 RF_OUT, 34 GND hidden

## RAK811-HF-AU915
designator *  value RAK811-HF-AU915  Reference: U
ki_keywords: IoT LoRa LoRaWAN RF; ki_description: LoRa Module, STM32L151, AU915, RAKwireless; ki_fp_filters: RAK811*; Footprint: RF_Module:RAK811; Datasheet: https://downloads.rakwireless.com/LoRa/RAK811/Hardware_Specification/RAK811_LoRa_Module_Datasheet_V1.4.pdf
pins: 1 GND, 2 PB12, 3 PB14, 4 PB15, 5 PA8, 6 PA9/USART1_TX, 7 PA10/USART1_RX, 8 PA12, 9 PB4, 10 PA13, 11 VCC, 12 GND hidden, 13 PA14, 14 PA15, 15 PB3, 16 PB5, 17 BOOT0, 18 PB8, 19 PB9, 20 PA2, 21 GND hidden, 22 PA1, 23 PA0, 24 ~{{RST}}, 25 PB10, 26 PB11, 27 PB2, 28 GND hidden, 29 GND hidden, 30 GND hidden, 31 GND hidden, 32 GND hidden, 33 RF_OUT, 34 GND hidden

## RAK811-HF-EU868
designator *  value RAK811-HF-EU868  Reference: U
ki_keywords: IoT LoRa LoRaWAN RF; ki_description: LoRa Module, STM32L151, EU868, RAKwireless; ki_fp_filters: RAK811*; Footprint: RF_Module:RAK811; Datasheet: https://downloads.rakwireless.com/LoRa/RAK811/Hardware_Specification/RAK811_LoRa_Module_Datasheet_V1.4.pdf
pins: 1 GND, 2 PB12, 3 PB14, 4 PB15, 5 PA8, 6 PA9/USART1_TX, 7 PA10/USART1_RX, 8 PA12, 9 PB4, 10 PA13, 11 VCC, 12 GND hidden, 13 PA14, 14 PA15, 15 PB3, 16 PB5, 17 BOOT0, 18 PB8, 19 PB9, 20 PA2, 21 GND hidden, 22 PA1, 23 PA0, 24 ~{{RST}}, 25 PB10, 26 PB11, 27 PB2, 28 GND hidden, 29 GND hidden, 30 GND hidden, 31 GND hidden, 32 GND hidden, 33 RF_OUT, 34 GND hidden

## RAK811-HF-IN865
designator *  value RAK811-HF-IN865  Reference: U
ki_keywords: IoT LoRa LoRaWAN RF; ki_description: LoRa Module, STM32L151, IN865, RAKwireless; ki_fp_filters: RAK811*; Footprint: RF_Module:RAK811; Datasheet: https://downloads.rakwireless.com/LoRa/RAK811/Hardware_Specification/RAK811_LoRa_Module_Datasheet_V1.4.pdf
pins: 1 GND, 2 PB12, 3 PB14, 4 PB15, 5 PA8, 6 PA9/USART1_TX, 7 PA10/USART1_RX, 8 PA12, 9 PB4, 10 PA13, 11 VCC, 12 GND hidden, 13 PA14, 14 PA15, 15 PB3, 16 PB5, 17 BOOT0, 18 PB8, 19 PB9, 20 PA2, 21 GND hidden, 22 PA1, 23 PA0, 24 ~{{RST}}, 25 PB10, 26 PB11, 27 PB2, 28 GND hidden, 29 GND hidden, 30 GND hidden, 31 GND hidden, 32 GND hidden, 33 RF_OUT, 34 GND hidden

## RAK811-HF-KR920
designator *  value RAK811-HF-KR920  Reference: U
ki_keywords: IoT LoRa LoRaWAN RF; ki_description: LoRa Module, STM32L151, KR920, RAKwireless; ki_fp_filters: RAK811*; Footprint: RF_Module:RAK811; Datasheet: https://downloads.rakwireless.com/LoRa/RAK811/Hardware_Specification/RAK811_LoRa_Module_Datasheet_V1.4.pdf
pins: 1 GND, 2 PB12, 3 PB14, 4 PB15, 5 PA8, 6 PA9/USART1_TX, 7 PA10/USART1_RX, 8 PA12, 9 PB4, 10 PA13, 11 VCC, 12 GND hidden, 13 PA14, 14 PA15, 15 PB3, 16 PB5, 17 BOOT0, 18 PB8, 19 PB9, 20 PA2, 21 GND hidden, 22 PA1, 23 PA0, 24 ~{{RST}}, 25 PB10, 26 PB11, 27 PB2, 28 GND hidden, 29 GND hidden, 30 GND hidden, 31 GND hidden, 32 GND hidden, 33 RF_OUT, 34 GND hidden

## RAK811-HF-US915
designator *  value RAK811-HF-US915  Reference: U
ki_keywords: IoT LoRa LoRaWAN RF; ki_description: LoRa Module, STM32L151, US915, RAKwireless; ki_fp_filters: RAK811*; Footprint: RF_Module:RAK811; Datasheet: https://downloads.rakwireless.com/LoRa/RAK811/Hardware_Specification/RAK811_LoRa_Module_Datasheet_V1.4.pdf
pins: 1 GND, 2 PB12, 3 PB14, 4 PB15, 5 PA8, 6 PA9/USART1_TX, 7 PA10/USART1_RX, 8 PA12, 9 PB4, 10 PA13, 11 VCC, 12 GND hidden, 13 PA14, 14 PA15, 15 PB3, 16 PB5, 17 BOOT0, 18 PB8, 19 PB9, 20 PA2, 21 GND hidden, 22 PA1, 23 PA0, 24 ~{{RST}}, 25 PB10, 26 PB11, 27 PB2, 28 GND hidden, 29 GND hidden, 30 GND hidden, 31 GND hidden, 32 GND hidden, 33 RF_OUT, 34 GND hidden

## RAK811-LF-CN470
designator *  value RAK811-LF-CN470  Reference: U
ki_keywords: IoT LoRa LoRaWAN RF; ki_description: LoRa Module, STM32L151, CN470, RAKwireless; ki_fp_filters: RAK811*; Footprint: RF_Module:RAK811; Datasheet: https://downloads.rakwireless.com/LoRa/RAK811/Hardware_Specification/RAK811_LoRa_Module_Datasheet_V1.4.pdf
pins: 1 GND, 2 PB12, 3 PB14, 4 PB15, 5 PB13, 6 PA9/USART1_TX, 7 PA10/USART1_RX, 8 PA12, 9 PA11, 10 PA13, 11 VCC, 12 GND hidden, 13 PA14, 14 PA15, 15 PA3, 16 PB5, 17 BOOT0, 18 PB6, 19 PB7, 20 PA2, 21 GND hidden, 22 PA1, 23 PA0, 24 ~{{RST}}, 25 PB10, 26 PB11, 27 PB2, 28 GND hidden, 29 GND hidden, 30 GND hidden, 31 GND hidden, 32 GND hidden, 33 RF_OUT, 34 GND hidden

## RAK811-LF-EU433
designator *  value RAK811-LF-EU433  Reference: U
ki_keywords: IoT LoRa LoRaWAN RF; ki_description: LoRa Module, STM32L151, EU433, RAKwireless; ki_fp_filters: RAK811*; Footprint: RF_Module:RAK811; Datasheet: https://downloads.rakwireless.com/LoRa/RAK811/Hardware_Specification/RAK811_LoRa_Module_Datasheet_V1.4.pdf
pins: 1 GND, 2 PB12, 3 PB14, 4 PB15, 5 PB13, 6 PA9/USART1_TX, 7 PA10/USART1_RX, 8 PA12, 9 PA11, 10 PA13, 11 VCC, 12 GND hidden, 13 PA14, 14 PA15, 15 PA3, 16 PB5, 17 BOOT0, 18 PB6, 19 PB7, 20 PA2, 21 GND hidden, 22 PA1, 23 PA0, 24 ~{{RST}}, 25 PB10, 26 PB11, 27 PB2, 28 GND hidden, 29 GND hidden, 30 GND hidden, 31 GND hidden, 32 GND hidden, 33 RF_OUT, 34 GND hidden

## RAK4200
designator *  value RAK4200  Reference: U
ki_keywords: IoT, LoRa, LoRaWAN, RF; ki_description: LoRa Module, STM32L071,  RAKwireless; ki_fp_filters: RAK4200*; Footprint: RF_Module:RAK4200; Datasheet: https://downloads.rakwireless.com/LoRa/RAK4200/Hardware-Specification/RAK4200_Module_Specifications_V1.4.pdf
pins: 1 PA3/UART2_RX, 2 PA2/UART2_TX, 3 PA1/UART2_DE, 4 PA9/UART1_TX, 5 PA10/UART1_RX, 6 PA12/UART1_DE, 7 PA13/SWDIO, 8 PA14/SWCLK, 9 I2C_SCL/PB6, 10 I2C_SDA/PB7, 11 GND, 12 RF, 13 GND hidden, 14 GND hidden, 15 PA5/SPI_CLK, 16 PA6/SPI_MISO, 17 PA7/SPI_MOSI, 18 ~{{MCU_NRESET}}, 19 GND hidden, 20 VDD

## RFM69HCW
designator *  value RFM69HCW  Reference: U
ki_keywords: low power Radio ISM Transceiver Module AES encryption SPI HopeRF; ki_description: Low power ISM Radio Transceiver Module, SPI interface, AES encryption, 434 or 915 MHz, up to 100mW, up to 300 kb/s, SMD-16, DIP-16; ki_fp_filters: HOPERF*RFM9XW*; Datasheet: https://www.hoperf.com/data/upload/portal/20181127/5bfcb8284d838.pdf
pins: 1 GND, 2 MISO, 3 MOSI, 4 SCK, 5 NSS, 6 RESET, 7 DIO5, 8 GND, 9 ANT, 10 GND, 11 DIO3, 12 DIO4, 13 3.3V, 14 DIO0, 15 DIO1, 16 DIO2

## RFM69HW
designator *  value RFM69HW  Reference: U
ki_keywords: Radio ISM Transceiver Module AES; ki_description: ISM Radio Transceiver Module, SPI interface; ki_fp_filters: HOPERF*RFM69HW*; Footprint: RF_Module:HOPERF_RFM69HW; Datasheet: https://www.hoperf.com/data/upload/portal/20181127/5bfcbb56f1fd7.pdf
pins: 1 RESET, 2 DIO0, 3 DIO1, 4 DIO2, 5 DIO3, 6 DIO4, 7 DIO5, 8 3.3V, 9 GND, 10 ANA, 11 GND hidden, 12 SCK, 13 MISO, 14 MOSI, 15 NSS, 16 NC hidden

## RFM69W
designator *  value RFM69W  Reference: U
ki_keywords: Radio, ISM, Transceiver, Module, AES; ki_description: ISM Radio Transceiver Module, SPI interface; ki_fp_filters: HOPERF*RFM69HW*; Footprint: RF_Module:HOPERF_RFM69HW; Datasheet: https://www.hoperf.com/data/upload/portal/20181127/5bfcbe34756e1.pdf
pins: 1 RESET, 2 DIO0, 3 DIO1, 4 DIO2, 5 DIO3, 6 DIO4, 7 DIO5, 8 3.3V, 9 GND, 10 ANA, 11 GND hidden, 12 SCK, 13 MISO, 14 MOSI, 15 NSS, 16 NC hidden

## RFM95W-868S2
designator *  value RFM95W-868S2  Reference: U
ki_keywords: Low power long range transceiver module; ki_description: Low power long range transceiver module, SPI and parallel interface, 868 MHz, spreading factor 6 to12, bandwidth 7.8 to 500kHz, -111 to -148 dBm, SMD-16, DIP-16; ki_fp_filters: HOPERF*RFM9XW*; Datasheet: https://www.hoperf.com/data/upload/portal/20181127/5bfcbea20e9ef.pdf
pins: 1 GND, 2 MISO, 3 MOSI, 4 SCK, 5 NSS, 6 RESET, 7 DIO5, 8 GND, 9 ANT, 10 GND, 11 DIO3, 12 DIO4, 13 3.3V, 14 DIO0, 15 DIO1, 16 DIO2

## RFM95W-915S2
designator *  value RFM95W-915S2  Reference: U
ki_keywords: Low power long range transceiver module; ki_description: Low power long range transceiver module, SPI and parallel interface, 915 MHz, spreading factor 6 to12, bandwidth 7.8 to 500kHz, -111 to -148 dBm, SMD-16, DIP-16; ki_fp_filters: HOPERF*RFM9XW*; Datasheet: https://www.hoperf.com/data/upload/portal/20181127/5bfcbea20e9ef.pdf
pins: 1 GND, 2 MISO, 3 MOSI, 4 SCK, 5 NSS, 6 RESET, 7 DIO5, 8 GND, 9 ANT, 10 GND, 11 DIO3, 12 DIO4, 13 3.3V, 14 DIO0, 15 DIO1, 16 DIO2

## RFM96W-315S2
designator *  value RFM96W-315S2  Reference: U
ki_keywords: Low power long range transceiver module; ki_description: Low power long range transceiver module, SPI and parallel interface, 315 MHz, spreading factor 6 to12, bandwidth 7.8 to 500kHz, -111 to -148 dBm, SMD-16, DIP-16; ki_fp_filters: HOPERF*RFM9XW*; Datasheet: https://www.hoperf.com/data/upload/portal/20181127/5bfcc0ac60235.pdf
pins: 1 GND, 2 MISO, 3 MOSI, 4 SCK, 5 NSS, 6 RESET, 7 DIO5, 8 GND, 9 ANT, 10 GND, 11 DIO3, 12 DIO4, 13 3.3V, 14 DIO0, 15 DIO1, 16 DIO2

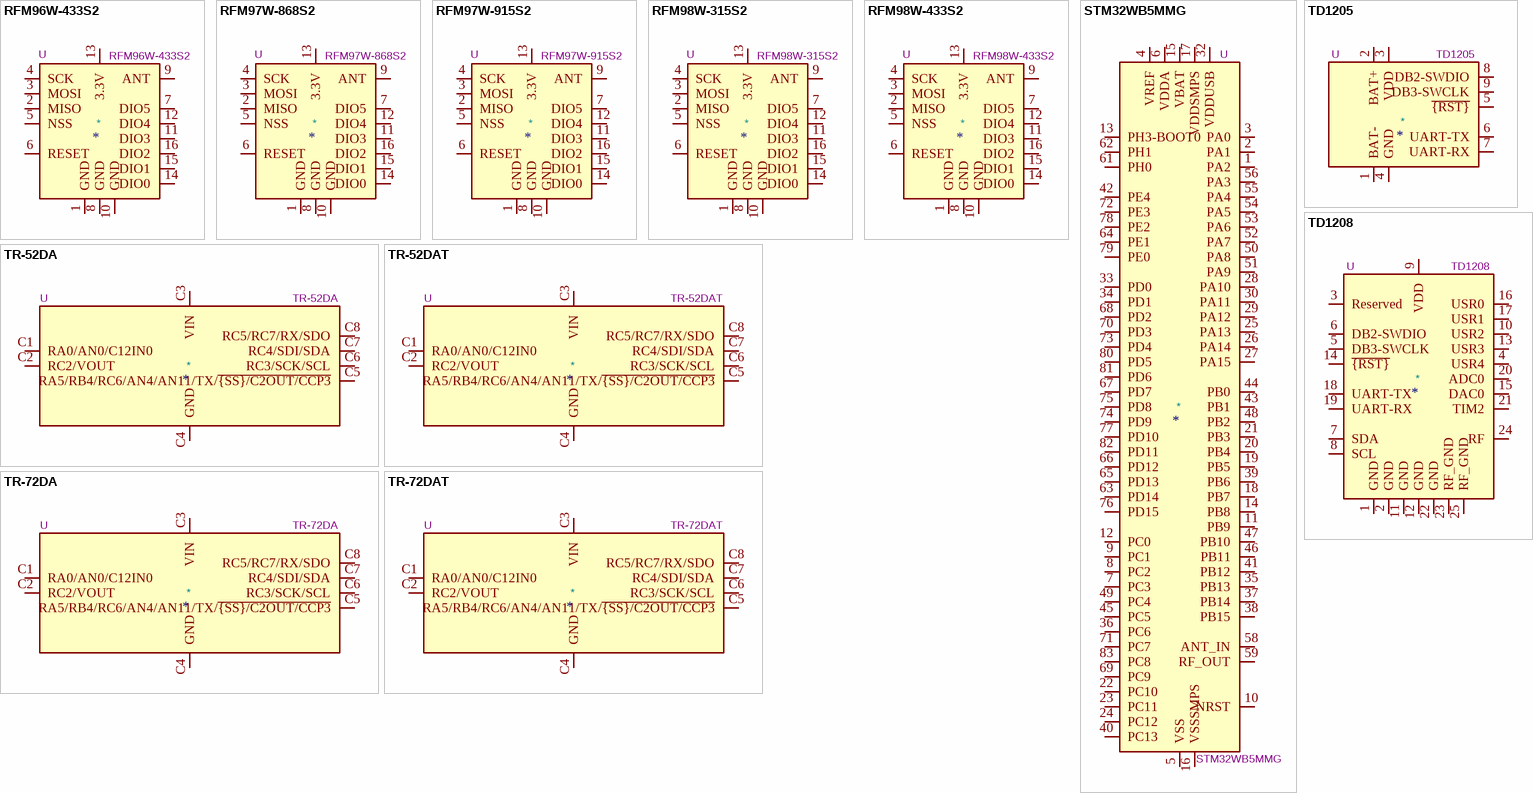
[diagram p3: symbols RFM96W-433S2 to TR-72DAT]

## RFM96W-433S2
designator *  value RFM96W-433S2  Reference: U
ki_keywords: Low power long range transceiver module; ki_description: Low power long range transceiver module, SPI and parallel interface, 433 MHz, spreading factor 6 to12, bandwidth 7.8 to 500kHz, -111 to -148 dBm, SMD-16, DIP-16; ki_fp_filters: HOPERF*RFM9XW*; Datasheet: https://www.hoperf.com/data/upload/portal/20181127/5bfcc0ac60235.pdf
pins: 1 GND, 2 MISO, 3 MOSI, 4 SCK, 5 NSS, 6 RESET, 7 DIO5, 8 GND, 9 ANT, 10 GND, 11 DIO3, 12 DIO4, 13 3.3V, 14 DIO0, 15 DIO1, 16 DIO2

## RFM97W-868S2
designator *  value RFM97W-868S2  Reference: U
ki_keywords: Low power long range transceiver module; ki_description: Low power long range transceiver module, SPI and parallel interface, 868 MHz, spreading factor 6 to12, bandwidth 7.8 to 500kHz, -111 to -139 dBm, SMD-16, DIP-16; ki_fp_filters: HOPERF*RFM9XW*; Datasheet: https://www.hoperf.com/data/upload/portal/20181127/5bfcbea20e9ef.pdf
pins: 1 GND, 2 MISO, 3 MOSI, 4 SCK, 5 NSS, 6 RESET, 7 DIO5, 8 GND, 9 ANT, 10 GND, 11 DIO3, 12 DIO4, 13 3.3V, 14 DIO0, 15 DIO1, 16 DIO2

## RFM97W-915S2
designator *  value RFM97W-915S2  Reference: U
ki_keywords: Low power long range transceiver module; ki_description: Low power long range transceiver module, SPI and parallel interface, 915 MHz, spreading factor 6 to12, bandwidth 7.8 to 500kHz, -111 to -139 dBm, SMD-16, DIP-16; ki_fp_filters: HOPERF*RFM9XW*; Datasheet: https://www.hoperf.com/data/upload/portal/20181127/5bfcbea20e9ef.pdf
pins: 1 GND, 2 MISO, 3 MOSI, 4 SCK, 5 NSS, 6 RESET, 7 DIO5, 8 GND, 9 ANT, 10 GND, 11 DIO3, 12 DIO4, 13 3.3V, 14 DIO0, 15 DIO1, 16 DIO2

## RFM98W-315S2
designator *  value RFM98W-315S2  Reference: U
ki_keywords: Low power long range transceiver module; ki_description: Low power long range transceiver module, SPI and parallel interface, 315 MHz, spreading factor 6 to12, bandwidth 7.8 to 500kHz, -111 to -148 dBm, SMD-16, DIP-16; ki_fp_filters: HOPERF*RFM9XW*; Datasheet: https://www.hoperf.com/data/upload/portal/20181127/5bfcdb5e17543.pdf
pins: 1 GND, 2 MISO, 3 MOSI, 4 SCK, 5 NSS, 6 RESET, 7 DIO5, 8 GND, 9 ANT, 10 GND, 11 DIO3, 12 DIO4, 13 3.3V, 14 DIO0, 15 DIO1, 16 DIO2

## RFM98W-433S2
designator *  value RFM98W-433S2  Reference: U
ki_keywords: Low power long range transceiver module; ki_description: Low power long range transceiver module, SPI and parallel interface, 433 MHz, spreading factor 6 to12, bandwidth 7.8 to 500kHz, -111 to -148 dBm, SMD-16, DIP-16; ki_fp_filters: HOPERF*RFM9XW*; Datasheet: https://www.hoperf.com/data/upload/portal/20181127/5bfcdb5e17543.pdf
pins: 1 GND, 2 MISO, 3 MOSI, 4 SCK, 5 NSS, 6 RESET, 7 DIO5, 8 GND, 9 ANT, 10 GND, 11 DIO3, 12 DIO4, 13 3.3V, 14 DIO0, 15 DIO1, 16 DIO2

## STM32WB5MMG
designator *  value STM32WB5MMG  Reference: U
ki_keywords: bluetooth bluetooth5 bluetooth5.0 802.15.4 zigbee module stm32 rf ARM Cortex-M3 Cortex-M0+; ki_description: ST Microelectronics STM32WB55VG ARM Cortex Bluetooth Low Energy 5.0, Zigbee and 802.15.4 module, 1 MB Flash, 256kb RAM, Fully integrated BOM; ki_fp_filters: RF?Module:ST?SiP?LGA?86?11x7.3mm*; Footprint: RF_Module:ST-SiP-LGA-86-11x7.3mm; Datasheet: https://www.st.com/resource/en/datasheet/stm32wb5mmg.pdf
pins: 1 PA2, 2 PA1, 3 PA0, 4 VREF, 5 VSS, 6 VDDA, 7 PC3, 8 PC2, 9 PC1, 10 NRST, 11 PB9, 12 PC0, 13 PH3-BOOT0, 14 PB8, 15 VBAT, 16 VSSSMPS, 17 VDDSMPS, 18 PB7, 19 PB5, 20 PB4, 21 PB3, 22 PC10, 23 PC11, 24 PC12, 25 PA13, 26 PA14, 27 PA15, 28 PA10, 29 PA12, 30 PA11, 31 VSS hidden, 32 VDDUSB, 33 PD0, 34 PD1, 35 PB13, 36 PC6, 37 PB14, 38 PB15, 39 PB6, 40 PC13, 41 PB12, 42 PE4, 43 PB1, 44 PB0, 45 PC5, 46 PB11, 47 PB10, 48 PB2, 49 PC4, 50 PA8, 51 PA9, 52 PA7, 53 PA6, 54 PA5, 55 PA4, 56 PA3, 57 VSS hidden, 58 ANT_IN, 59 RF_OUT, 60 VSS hidden, 61 PH0, 62 PH1, 63 PD14, 64 PE1, 65 PD13, 66 PD12, 67 PD7, 68 PD2, 69 PC9, 70 PD3, 71 PC7, 72 PE3, 73 PD4, 74 PD9, 75 PD8, 76 PD15, 77 PD10, 78 PE2, 79 PE0, 80 PD5, 81 PD6, 82 PD11, 83 PC8, 84 VSS hidden, 85 ANT_NC hidden, 86 VSS hidden

## TD1205
designator *  value TD1205  Reference: U
ki_keywords: IOT SIGFOX GPS; ki_description: High-Performance, Low-Current SIGFOX™ Gateway And GPS Receiver With Integrated Antennas; ki_fp_filters: TD1205*; Footprint: RF_Module:TD1205; Datasheet: https://github.com/Telecom-Design/Documentation_TD_RF_Module/blob/master/TD1205%20Datasheet.pdf
pins: 1 BAT-, 2 BAT+, 3 VDD, 4 GND, 5 ~{{RST}}, 6 UART-TX, 7 UART-RX, 8 DB2-SWDIO, 9 DB3-SWCLK

## TD1208
designator *  value TD1208  Reference: U
ki_keywords: IOT SIGFOX; ki_description: High-Performance, Low-Current SIGFOX™ Gateway; ki_fp_filters: TD1208*; Footprint: RF_Module:TD1208; Datasheet: https://github.com/Telecom-Design/Documentation_TD_RF_Module/blob/master/TD1208%20Datasheet.pdf
pins: 1 GND, 2 GND, 3 Reserved, 4 USR4, 5 DB3-SWCLK, 6 DB2-SWDIO, 7 SDA, 8 SCL, 9 VDD, 10 USR2, 11 GND, 12 GND, 13 USR3, 14 ~{{RST}}, 15 DAC0, 16 USR0, 17 USR1, 18 UART-TX, 19 UART-RX, 20 ADC0, 21 TIM2, 22 GND, 23 RF_GND, 24 RF, 25 RF_GND

## TR-52DA
designator *  value TR-52DA  Reference: U
ki_keywords: IQRF common transceiver, PCB antenna, FSK modulation; ki_description: IQRF common transceiver with PCB antenna, FSK modulation; ki_fp_filters: IQRF?TRx2DA?KON?SIM?01*; Footprint: RF_Module:IQRF_TRx2DA_KON-SIM-01; Datasheet: https://iqrf.org/weben/downloads.php?id=213
pins: C1 RA0/AN0/C12IN0, C2 RC2/VOUT, C3 VIN, C4 GND, C5 RA5/RB4/RC6/AN4/AN11/TX/~{{SS}/C2OUT/CCP3}, C6 RC3/SCK/SCL, C7 RC4/SDI/SDA, C8 RC5/RC7/RX/SDO

## TR-52DAT
designator *  value TR-52DAT  Reference: U
ki_keywords: IQRF common transceiver, PCB antenna, thermometer, FSK modulation; ki_description: IQRF common transceiver with PCB antenna and thermometer, FSK modulation; ki_fp_filters: IQRF?TRx2DA?KON?SIM?01*; Footprint: RF_Module:IQRF_TRx2DA_KON-SIM-01; Datasheet: https://iqrf.org/weben/downloads.php?id=213
pins: C1 RA0/AN0/C12IN0, C2 RC2/VOUT, C3 VIN, C4 GND, C5 RA5/RB4/RC6/AN4/AN11/TX/~{{SS}/C2OUT/CCP3}, C6 RC3/SCK/SCL, C7 RC4/SDI/SDA, C8 RC5/RC7/RX/SDO

## TR-72DA
designator *  value TR-72DA  Reference: U
ki_keywords: IQRF transceiver, PCB antenna, GMSK modulation; ki_description: IQRF transceiver with PCB antenna, GMSK modulation; ki_fp_filters: IQRF?TRx2DA?KON?SIM?01*; Footprint: RF_Module:IQRF_TRx2DA_KON-SIM-01; Datasheet: https://iqrf.org/weben/downloads.php?id=337
pins: C1 RA0/AN0/C12IN0, C2 RC2/VOUT, C3 VIN, C4 GND, C5 RA5/RB4/RC6/AN4/AN11/TX/~{{SS}/C2OUT/CCP3}, C6 RC3/SCK/SCL, C7 RC4/SDI/SDA, C8 RC5/RC7/RX/SDO

## TR-72DAT
designator *  value TR-72DAT  Reference: U
ki_keywords: IQRF transceiver, PCB antenna, thermometer, GMSK modulation; ki_description: IQRF transceiver with PCB antenna and thermometer, GMSK modulation; ki_fp_filters: IQRF?TRx2DA?KON?SIM?01*; Footprint: RF_Module:IQRF_TRx2DA_KON-SIM-01; Datasheet: https://iqrf.org/weben/downloads.php?id=337
pins: C1 RA0/AN0/C12IN0, C2 RC2/VOUT, C3 VIN, C4 GND, C5 RA5/RB4/RC6/AN4/AN11/TX/~{{SS}/C2OUT/CCP3}, C6 RC3/SCK/SCL, C7 RC4/SDI/SDA, C8 RC5/RC7/RX/SDO